# Altium schematic symbol library Librairy_schematic.SchLib: 14 symbols
Pins are listed as number, name and electrical type; pins without a type are passive.

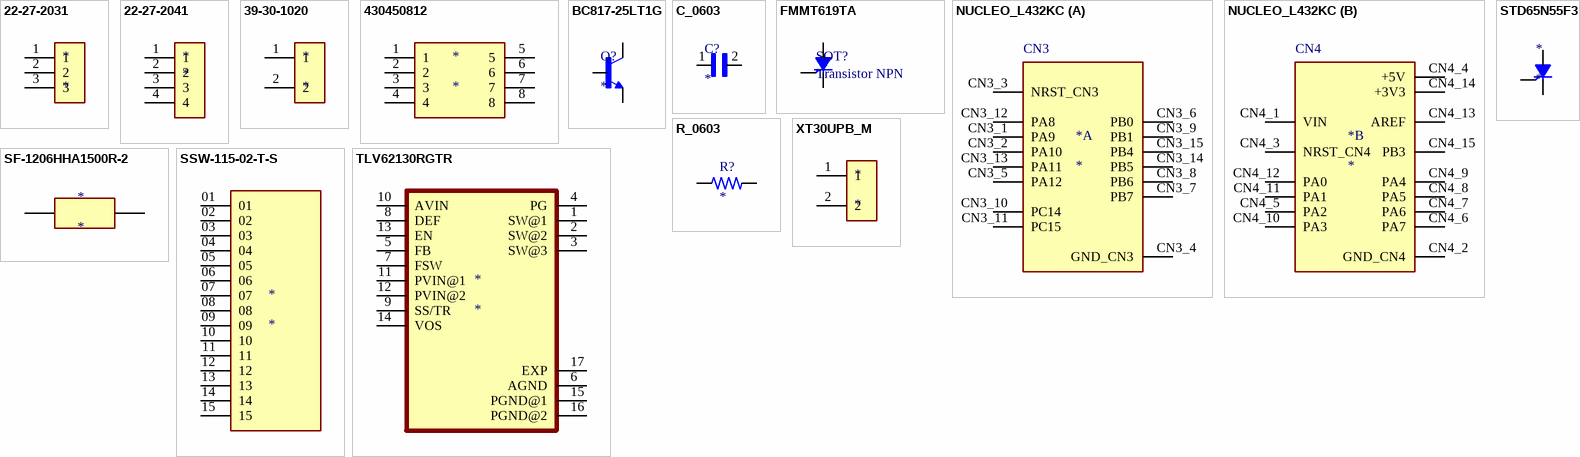
[diagram p0: symbols 22-27-2031 to XT30UPB_M]

## 22-27-2031
designator *
footprint 22-27-2031
pins: 1, 2, 3

## 22-27-2041
designator *
footprint 22-27-2041
pins: 1, 2, 3, 4

## 39-30-1020
designator *
footprint 39-30-1020
pins: 1, 2

## 430450812
designator *
footprint 430450812
pins: 1, 2, 3, 4, 5, 6, 7, 8

## BC817-25LT1G
designator Q?
Transistor NPN 45V 0.5A hfe160 SOT23 | ON Semiconductor BC817-25LT1G; SnapEDA_Link: https://www.snapeda.com/parts/BC817-25LT1G/Onsemi/view-part/?ref=snap; Package: SOT-23-3 ON Semiconductor; Value: *; MF: ON Semiconductor; MP: BC817-25LT1G; Check_prices: https://www.snapeda.com/parts/BC817-25LT1G/Onsemi/view-part/?ref=eda
footprint SOT_BC817
pins: 1 B, 2 E, 3 C

## C_0603
designator C?
SMD capacitor 0603; Value: *
footprint C_0603
pins: 1, 2

## FMMT619TA
designator SOT?, comment Transistor NPN
footprint SOT_FMM619FA
pins: 1 K, 3 G, 4 A

## NUCLEO_L432KC
designator *
footprint NUCLEO_L432KC
part A pins: CN3_1 PA9, CN3_2 PA10, CN3_3 NRST_CN3, CN3_4 GND_CN3, CN3_5 PA12, CN3_6 PB0, CN3_7 PB7, CN3_8 PB6, CN3_9 PB1, CN3_10 PC14, CN3_11 PC15, CN3_12 PA8, CN3_13 PA11, CN3_14 PB5, CN3_15 PB4
part B pins: CN4_1 VIN, CN4_2 GND_CN4, CN4_3 NRST_CN4, CN4_4 +5V, CN4_5 PA2, CN4_6 PA7, CN4_7 PA6, CN4_8 PA5, CN4_9 PA4, CN4_10 PA3, CN4_11 PA1, CN4_12 PA0, CN4_13 AREF, CN4_14 +3V3, CN4_15 PB3
part A text: CN3
part B text: CN4

## R_0603
designator R?
Res 0603
footprint R_0603
pins: 1, 2

## SF-1206HHA1500R-2
designator *
footprint SF-1206HHA1500R-2
pins: 1, 2

## SSW-115-02-T-S
designator *
footprint SSW-115-02-T-S
pins: 01, 02, 03, 04, 05, 06, 07, 08, 09, 10, 11, 12, 13, 14, 15

## STD65N55F3
designator *
footprint STD65N55F3
pins: 1 G, 2 A, 3 K

## TLV62130RGTR
designator *
footprint TLV62130RGTR
pins: 1 SW@1, 2 SW@2, 3 SW@3, 4 PG, 5 FB, 6 AGND, 7 FSW, 8 DEF, 9 SS/TR, 10 AVIN, 11 PVIN@1, 12 PVIN@2, 13 EN, 14 VOS, 15 PGND@1, 16 PGND@2, 17 EXP

## XT30UPB_M
designator *
footprint XT30UPB-M
pins: 1, 2